# Altium schematic symbol library TLV73333PQDBVRQ1.SchLib: 1 symbol
Pins are listed as number, name and electrical type; pins without a type are passive.

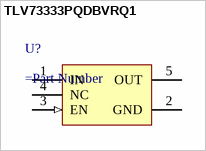
[diagram p0: symbol TLV73333PQDBVRQ1]

## TLV73333PQDBVRQ1
designator U?
=Description
pins: 1 IN (power), 2 GND (power), 3 EN (in), 4 NC, 5 OUT (power)